# Altium footprint library Mezeq_PCB_and_Mechanical.PcbLib: 7 footprints
Each footprint in its own frame and in the unit in brackets; x right, y up, seen from the top. Pads: shape width x height; smd on the part's side, far side on the other; paste and mask are expansions set on the pad; w line width, h text height; cw(c..) or ccw(c..) is an arc to the next point about the centre after c.
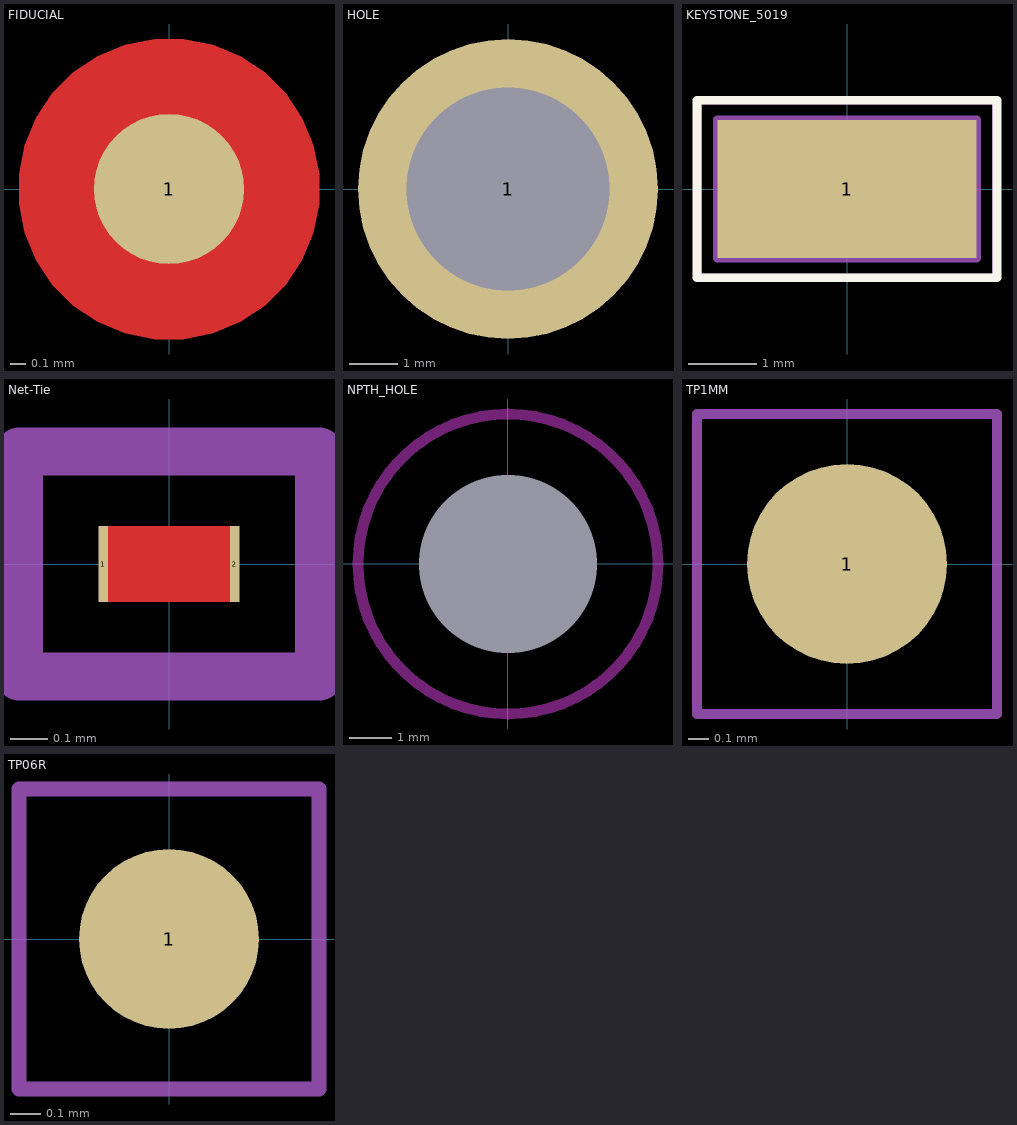
[diagram p0: the footprints below, top view; thin cyan lines are the x and y axes]

## FIDUCIAL [mm] "1mm fiducial point with"
pads (1):
  round 1 smd paste-2539.97 mask+0.5: 1(0,0)
Top Layer:
  pour cut-out: 0,-1 -0.098,-1 -0.292,-0.962 -0.474,-0.886 -0.637,-0.777 -0.777,-0.637 -0.886,-0.474 -0.962,-0.292 -1,-0.098 -1,0 -1,0.098 -0.962,0.292 -0.886,0.474 -0.777,0.637 -0.637,0.777 -0.474,0.886 -0.292,0.962 -0.098,1 0,1 0.098,1 0.292,0.962 0.474,0.886 0.637,0.777 0.777,0.637 0.886,0.474 0.962,0.292 1,0.098 1,0 1,-0.098 0.962,-0.292 0.886,-0.474 0.777,-0.637 0.637,-0.777 0.474,-0.886 0.292,-0.962 0.098,-1

## HOLE [mm] "4.2 MM PTH HOLE"
pads (1):
  round 6.2 hole 4.2: 1(0,0)

## KEYSTONE_5019 [mm] "PC TEST POINT MINIATURE"
height 2.29
pads (1):
  rect 3.8x2.03 smd: 1(0,0)
Top Overlay:
  lines w0.127: -2.2,-1.3 -2.2,1.3 2.2,1.3 2.2,-1.3 -2.2,-1.3
Top Assembly:
  lines w0.127: -1.905,-1.015 1.905,-1.015 1.905,1.015 -1.905,1.015 -1.905,-1.015
  text ".Designator" at -4.998,-0.333 h1
Top Courtyard:
  lines w0.05: -2.155,-1.265 2.155,-1.265 2.155,1.265 -2.155,1.265 -2.155,-1.265
3D body "step_temp.STEP": height 2.3, standoff 0.01, extent -1.905,-1.015 1.905,1.015

## Net-Tie [mil] "14.78 mil x 8 mil Net Tie"
pads (2):
  rect 1x8 smd mask+1.97: 1(-6.89,0) 2(6.89,0)
Top Layer:
  rectangle: -6.89,-4 6.89,4
Top Assembly:
  lines w5: -15.75,-11.81 15.75,-11.81 15.75,11.81 -15.75,11.81 -15.75,-11.81
  text ".Designator" at -98.39,24.94 h19.68

## NPTH_HOLE [mm] "4.2 MM NPTH HOLE"
pads (1):
  round 0 hole 4.2 unplated mask+0.102: 1(0,0)
Keep-Out Layer:
  circle w0.254: c0,0 r3.536

## TP1MM [mm] "Testpoint, round, d=1mm"
pads (1):
  round 1 smd paste-2539.97: 1(0,0)
Top Assembly:
  lines w0.05: -0.75,-0.75 -0.75,0.75 0.75,0.75 0.75,-0.75 -0.75,-0.75
  text ".Designator" at -1.5,-0.1 h0.3

## TP06R [mm] "Testpoint, round, d=0.6mm"
pads (1):
  round 0.6 smd paste-2539.97: 1(0,0)
Top Assembly:
  lines w0.05: -0.5,-0.5 0.5,-0.5 0.5,0.5 -0.5,0.5 -0.5,-0.5
  text ".Designator" at -3.499,0.767 h0.7